# EAGLE library part AT32UC3B0 (library U-AVR32)
AT32UC3B0[64|128|256|512] 7-Channel 20-bit Pulse Width Modulation Controller (PWM) Master/Slave Two-Wire Interface (TWI), 400kbit/s I2C-compatible Master/Slave Serial Peripheral Interfaces (SPI) 8-channel 10-bit Analog-To-Digital Converter, 384ks/s On-Chip Debug System (JTAG interface) three UARTS, 2xRS485 and 1 RS232 /w DCD and RI (i.e. Radio)
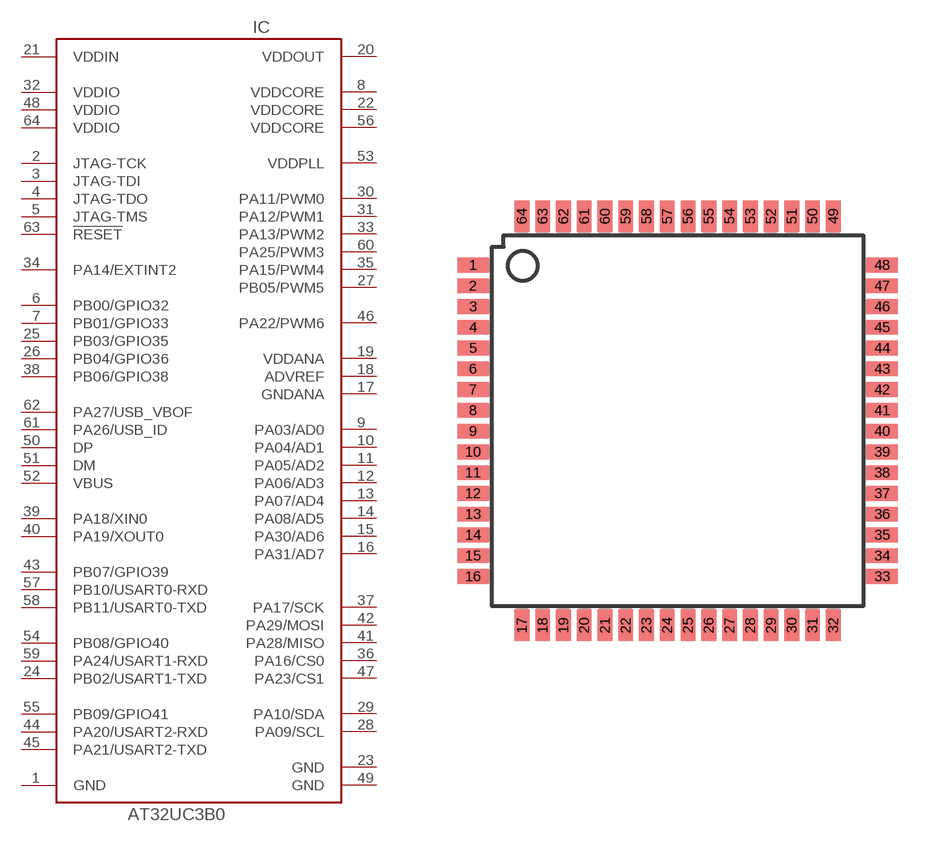
[diagram p2: symbol with the pads of TQFP64; footprint TQFP64]

Designator prefix IC

## AT32UC3B064  [TQFP64]
1  GND  pwr
2  JTAG-TCK  in
3  JTAG-TDI
4  JTAG-TDO
5  JTAG-TMS
6  PB00/GPIO32
7  PB01/GPIO33
8  VDDCORE  pwr
9  PA03/AD0
10  PA04/AD1
11  PA05/AD2
12  PA06/AD3  in
13  PA07/AD4  in
14  PA08/AD5  in
15  PA30/AD6  in
16  PA31/AD7
17  GNDANA  pwr
18  ADVREF  pwr
19  VDDANA  pwr
20  VDDOUT  pwr
21  VDDIN  pwr
22  VDDCORE  pwr
23  GND  pwr
24  PB02/USART1-TXD
25  PB03/GPIO35
26  PB04/GPIO36
27  PB05/PWM5
28  PA09/SCL  in
29  PA10/SDA  in
30  PA11/PWM0
31  PA12/PWM1
32  VDDIO  pwr
33  PA13/PWM2
34  PA14/EXTINT2
35  PA15/PWM4
36  PA16/CS0
37  PA17/SCK
38  PB06/GPIO38
39  PA18/XIN0
40  PA19/XOUT0
41  PA28/MISO
42  PA29/MOSI
43  PB07/GPIO39
44  PA20/USART2-RXD
45  PA21/USART2-TXD
46  PA22/PWM6
47  PA23/CS1
48  VDDIO  pwr
49  GND  pwr
50  DP
51  DM
52  VBUS  in
53  VDDPLL  pwr
54  PB08/GPIO40
55  PB09/GPIO41
56  VDDCORE  pwr
57  PB10/USART0-RXD
58  PB11/USART0-TXD
59  PA24/USART1-RXD
60  PA25/PWM3
61  PA26/USB_ID
62  PA27/USB_VBOF
63  !RESET
64  VDDIO  pwr

## AT32UC3B0128  [TQFP64]
Pads as for TQFP64

## AT32UC3B0256  [TQFP64]
Pads as for TQFP64

## AT32UC3B0512  [TQFP64]
Pads as for TQFP64

## Footprint TQFP64 (pad centres in mm)
Thin Plasic Quad Flat Package
smd 1.194 x 0.559: 1 -7.76,5.905; 2 -7.76,5.118; 3 -7.76,4.331; 4 -7.76,3.543; 5 -7.76,2.756; 6 -7.76,1.968; 7 -7.76,1.181; 8 -7.76,0.394; 9 -7.76,-0.394; 10 -7.76,-1.181; 11 -7.76,-1.968; 12 -7.76,-2.756; 13 -7.76,-3.543; 14 -7.76,-4.331; 15 -7.76,-5.118; 16 -7.76,-5.905; 33 7.76,-5.905; 34 7.76,-5.118; 35 7.76,-4.331; 36 7.76,-3.543; 37 7.76,-2.756; 38 7.76,-1.968; 39 7.76,-1.181; 40 7.76,-0.394; 41 7.76,0.394; 42 7.76,1.181; 43 7.76,1.968; 44 7.76,2.756; 45 7.76,3.543; 46 7.76,4.331; 47 7.76,5.118; 48 7.76,5.905
smd 0.559 x 1.194: 17 -5.905,-7.76; 18 -5.118,-7.76; 19 -4.331,-7.76; 20 -3.543,-7.76; 21 -2.756,-7.76; 22 -1.968,-7.76; 23 -1.181,-7.76; 24 -0.394,-7.76; 25 0.394,-7.76; 26 1.181,-7.76; 27 1.968,-7.76; 28 2.756,-7.76; 29 3.543,-7.76; 30 4.331,-7.76; 31 5.118,-7.76; 32 5.905,-7.76; 49 5.905,7.76; 50 5.118,7.76; 51 4.331,7.76; 52 3.543,7.76; 53 2.756,7.76; 54 1.968,7.76; 55 1.181,7.76; 56 0.394,7.76; 57 -0.394,7.76; 58 -1.181,7.76; 59 -1.968,7.76; 60 -2.756,7.76; 61 -3.543,7.76; 62 -4.331,7.76; 63 -5.118,7.76; 64 -5.905,7.76